# EAGLE library part CY7C64613-80 (library NewSDR)
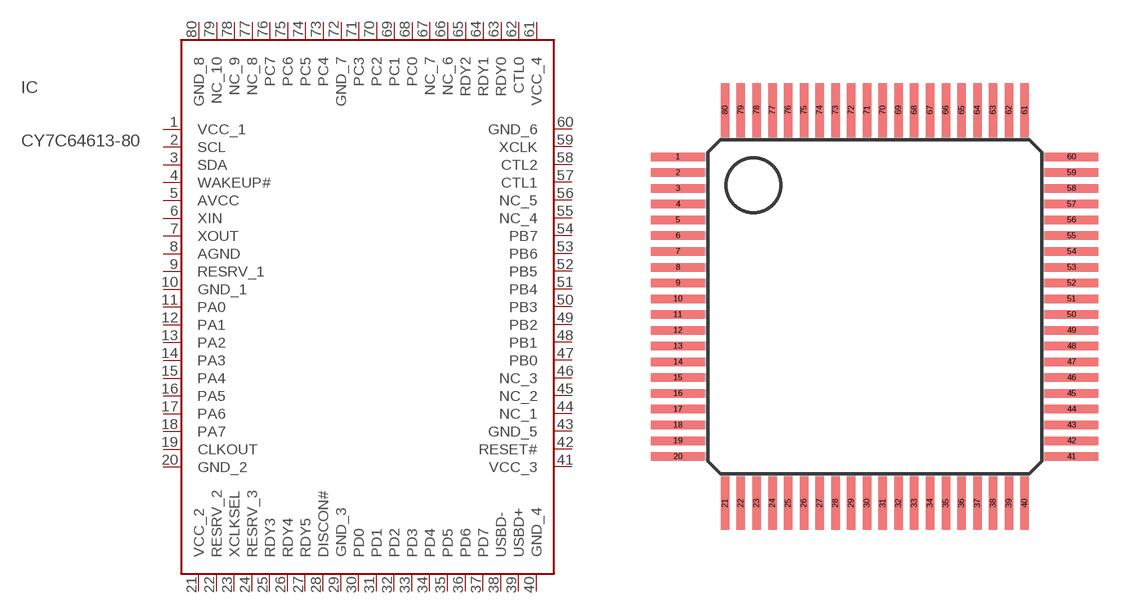
[diagram p12: symbol with the pads of LQFP-80; footprint LQFP-80]

Designator prefix IC

## CY7C64613-80  [LQFP-80]
1  VCC_1  pwr
2  SCL
3  SDA
4  WAKEUP#
5  AVCC
6  XIN
7  XOUT
8  AGND  pwr
9  RESRV_1  pwr
10  GND_1  pwr
11  PA0
12  PA1
13  PA2
14  PA3
15  PA4
16  PA5
17  PA6
18  PA7
19  CLKOUT
20  GND_2  pwr
21  VCC_2  pwr
22  RESRV_2  pwr
23  XCLKSEL  pwr
24  RESRV_3  pwr
25  RDY3
26  RDY4
27  RDY5
28  DISCON#
29  GND_3  pwr
30  PD0
31  PD1
32  PD2
33  PD3
34  PD4
35  PD5
36  PD6
37  PD7
38  USBD-
39  USBD+
40  GND_4  pwr
41  VCC_3  pwr
42  RESET#
43  GND_5  pwr
44  NC_1  nc
45  NC_2  nc
46  NC_3  nc
47  PB0
48  PB1
49  PB2
50  PB3
51  PB4
52  PB5
53  PB6
54  PB7
55  NC_4  nc
56  NC_5  nc
57  CTL1
58  CTL2
59  XCLK
60  GND_6  pwr
61  VCC_4  pwr
62  CTL0
63  RDY0
64  RDY1
65  RDY2
66  NC_6  nc
67  NC_7  nc
68  PC0
69  PC1
70  PC2
71  PC3
72  GND_7  pwr
73  PC4
74  PC5
75  PC6
76  PC7
77  NC_8  nc
78  NC_9  nc
79  NC_10  nc
80  GND_8  pwr

## Footprint LQFP-80 (pad centres in mm)
80 Pin Low Profile Quad Flat Pack
smd 2.2 x 0.35: 1 -7.693,6.251; 2 -7.693,5.601; 3 -7.693,4.951; 4 -7.693,4.301; 5 -7.693,3.651; 6 -7.693,3.001; 7 -7.693,2.351; 8 -7.693,1.701; 9 -7.693,1.051; 10 -7.693,0.401; 11 -7.693,-0.249; 12 -7.693,-0.899; 13 -7.693,-1.549; 14 -7.693,-2.199; 15 -7.693,-2.849; 16 -7.693,-3.499; 17 -7.693,-4.149; 18 -7.693,-4.799; 19 -7.693,-5.449; 20 -7.693,-6.099; 41 8.532,-6.099; 42 8.532,-5.449; 43 8.532,-4.799; 44 8.532,-4.149; 45 8.532,-3.499; 46 8.532,-2.849; 47 8.532,-2.199; 48 8.532,-1.549; 49 8.532,-0.899; 50 8.532,-0.249; 51 8.532,0.401; 52 8.532,1.051; 53 8.532,1.701; 54 8.532,2.351; 55 8.532,3.001; 56 8.532,3.651; 57 8.532,4.301; 58 8.532,4.951; 59 8.532,5.601; 60 8.532,6.251
smd 0.35 x 2.2: 21 -5.743,-8.024; 22 -5.093,-8.024; 23 -4.443,-8.024; 24 -3.793,-8.024; 25 -3.143,-8.024; 26 -2.493,-8.024; 27 -1.843,-8.024; 28 -1.193,-8.024; 29 -0.543,-8.024; 30 0.107,-8.024; 31 0.757,-8.024; 32 1.407,-8.024; 33 2.057,-8.024; 34 2.707,-8.024; 35 3.357,-8.024; 36 4.007,-8.024; 37 4.657,-8.024; 38 5.307,-8.024; 39 5.957,-8.024; 40 6.607,-8.024; 61 6.607,8.176; 62 5.957,8.176; 63 5.307,8.176; 64 4.657,8.176; 65 4.007,8.176; 66 3.357,8.176; 67 2.707,8.176; 68 2.057,8.176; 69 1.407,8.176; 70 0.757,8.176; 71 0.107,8.176; 72 -0.543,8.176; 73 -1.193,8.176; 74 -1.843,8.176; 75 -2.493,8.176; 76 -3.143,8.176; 77 -3.793,8.176; 78 -4.443,8.176; 79 -5.093,8.176; 80 -5.743,8.176